# Altium schematic symbol library TL431.Schlib: 1 symbol
Pins are listed as number, name and electrical type; pins without a type are passive.

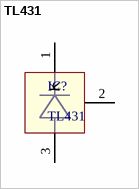
[diagram p0: symbol TL431]

## TL431
designator IC?
Voltage References Prog Voltage Ref 2.5 to 36V .22 Ohm
pins: 1 K, 2 REF, 3 A